# Altium schematic symbol library M_USB_PCB.Schlib: 1 symbol
Pins are listed as number, name and electrical type; pins without a type are passive.

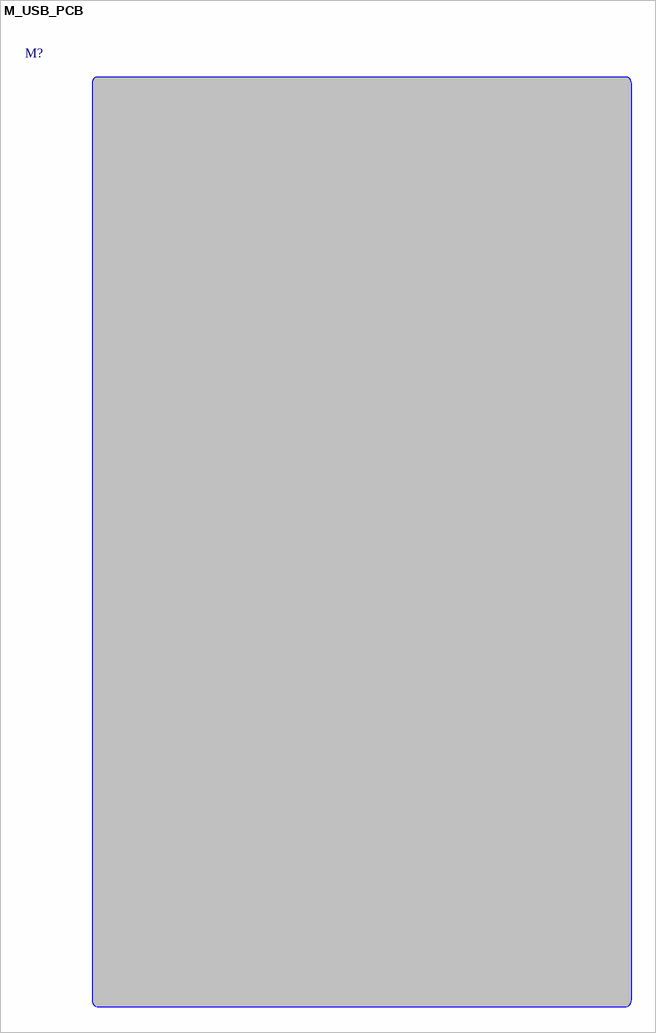
[diagram p0: symbol M_USB_PCB]

## M_USB_PCB
designator M?  (mechanical)